# Altium footprint library Transistors.PcbLib: 1 footprints
Each footprint in its own frame and in the unit in brackets; x right, y up, seen from the top. Pads: shape width x height; smd on the part's side, far side on the other; paste and mask are expansions set on the pad; w line width, h text height; cw(c..) or ccw(c..) is an arc to the next point about the centre after c.
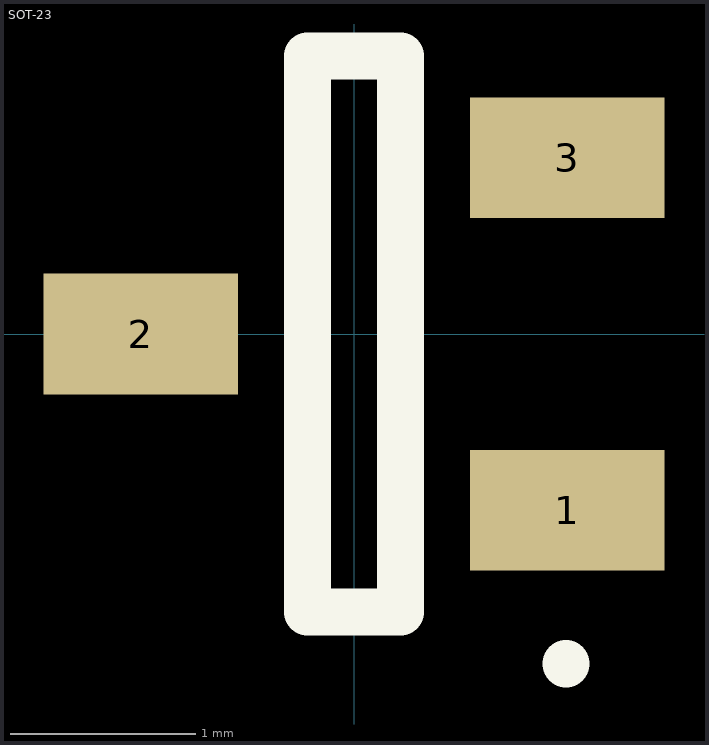
[diagram p0: the footprint, top view; thin cyan lines are the x and y axes]

## SOT-23 [mm]
pads (3):
  rect 1.05x0.65 smd: 1(1.15,-0.95) 2(-1.15,0)
  rect 1.05x0.65 smd mask+0.102: 3(1.15,0.95)
Top Overlay:
  lines w0.254: -0.25,-1.5 -0.25,1.5 0.25,1.5 0.25,-1.5 -0.25,-1.5 ; 1.143,-1.778 ccw(c1.079,-1.841) 1.143,-1.778